# Altium schematic symbol library SN74LVC1G18.Schlib: 1 symbol
Pins are listed as number, name and electrical type; pins without a type are passive.

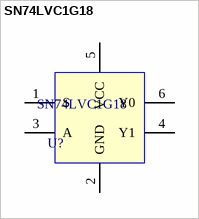
[diagram p0: symbol SN74LVC1G18]

## SN74LVC1G18
designator U?
IC, 1 of 2 demux
pins: 1 S, 2 GND, 3 A, 4 Y1, 5 VCC, 6 Y0